# Altium footprint library Light Emitting Diode.PcbLib: 4 footprints
Each footprint in its own frame and in the unit in brackets; x right, y up, seen from the top. Pads: shape width x height; smd on the part's side, far side on the other; paste and mask are expansions set on the pad; w line width, h text height; cw(c..) or ccw(c..) is an arc to the next point about the centre after c.
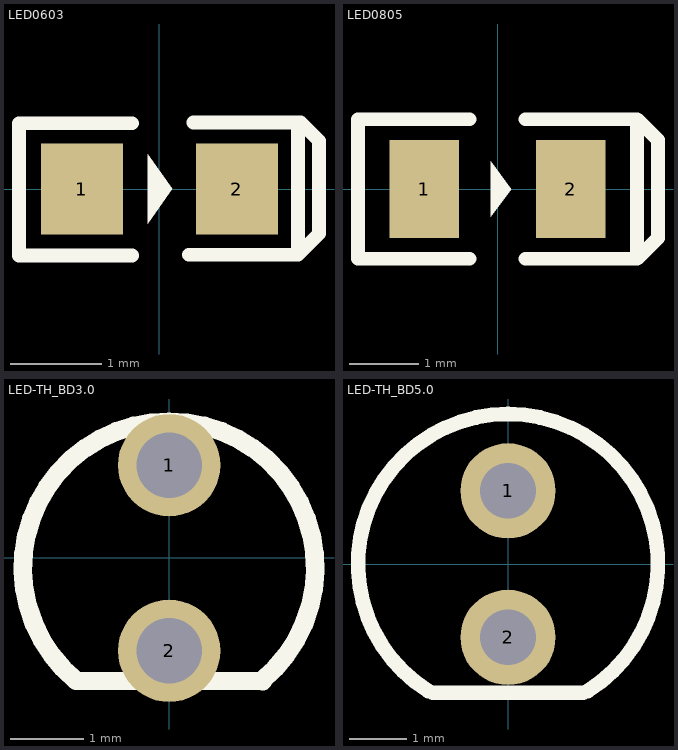
[diagram p0: the footprints below, top view; thin cyan lines are the x and y axes]

## LED0603 [mm]
pads (2):
  rect 0.9x1 smd paste+0 mask+0.051: 1(-0.85,0) 2(0.85,0)
Top Overlay:
  region: -0.127,0.381 -0.127,-0.381 0.14,0
  lines w0.15: -0.3,-0.73 -1.54,-0.73 -1.54,0.72 -0.3,0.72 ; 0.32,-0.72 1.52,-0.72 ; 0.37,0.73 1.52,0.73 ; 1.52,-0.72 1.72,-0.52 1.75,-0.49 1.75,0.53 1.55,0.73 1.52,0.73 ; 1.52,-0.72 1.52,0.73

## LED0805 [mm]
pads (2):
  rect 1x1.4 smd paste+0 mask+0.051: 1(-1.05,0) 2(1.05,0)
Top Overlay:
  region: -0.1,0.4 -0.1,-0.4 0.2,0
  lines w0.2: -0.4,-1 -2,-1 -2,1 -0.4,1 ; 0.4,-1 2,-1 ; 0.4,1 2,1 ; 2,-1 2.3,-0.7 2.3,0.7 2,1 ; 2,-1 2,1

## LED-TH_BD3.0 [mm]
pads (2):
  round 1.4 hole 0.9 paste-2539.97 mask+0.051: 1(0,1.27) 2(0,-1.27)
Top Overlay:
  lines w0.254: 1.265,-1.681 ccw(c-0.002,-0.134) -1.269,-1.681 1.278,-1.687

## LED-TH_BD5.0 [mil]
pads (2):
  round 65 hole 38 paste-99999 mask+2: 1(0,50) 2(0,-50)
Top Overlay:
  lines w10: -54.4,-86.68 cw(c0,0.03) 54.4,-86.68 ; -51.18,-87.79 51.18,-87.79